# Altium schematic symbol library MIC94060YMT-TR.SchLib: 1 symbol
Pins are listed as number, name and electrical type; pins without a type are passive.

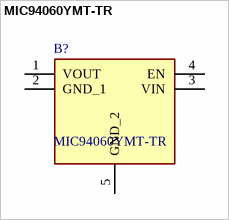
[diagram p0: symbol MIC94060YMT-TR]

## MIC94060YMT-TR
designator B?
Power Switch ICs - Power Distribution Loadswitch w/level-shift; Manufacturer_Name: Microchip; Geometry.Height: 0.6mm; Mouser Part Number: 998-MIC94060YMTTR; Mouser Price/Stock: https://www.mouser.co.uk/ProductDetail/Microchip-Technology-Atmel/MIC94060YMT-TR?qs=Y3Q3JoKAO1SQS%2F%2FiEDCB1w%3D%3D; Manufacturer_Part_Number: MIC94060YMT-TR; Datasheet Link: http://www.microchip.com/mymicrochip/filehandler.aspx?ddocname=en580310
footprint SON50P160X120X60-5N-D
pins: 1 VOUT, 2 GND_1, 3 VIN, 4 EN, 5 GND_2